# EAGLE library part NANOPI_NEO (library nanopi_neo)
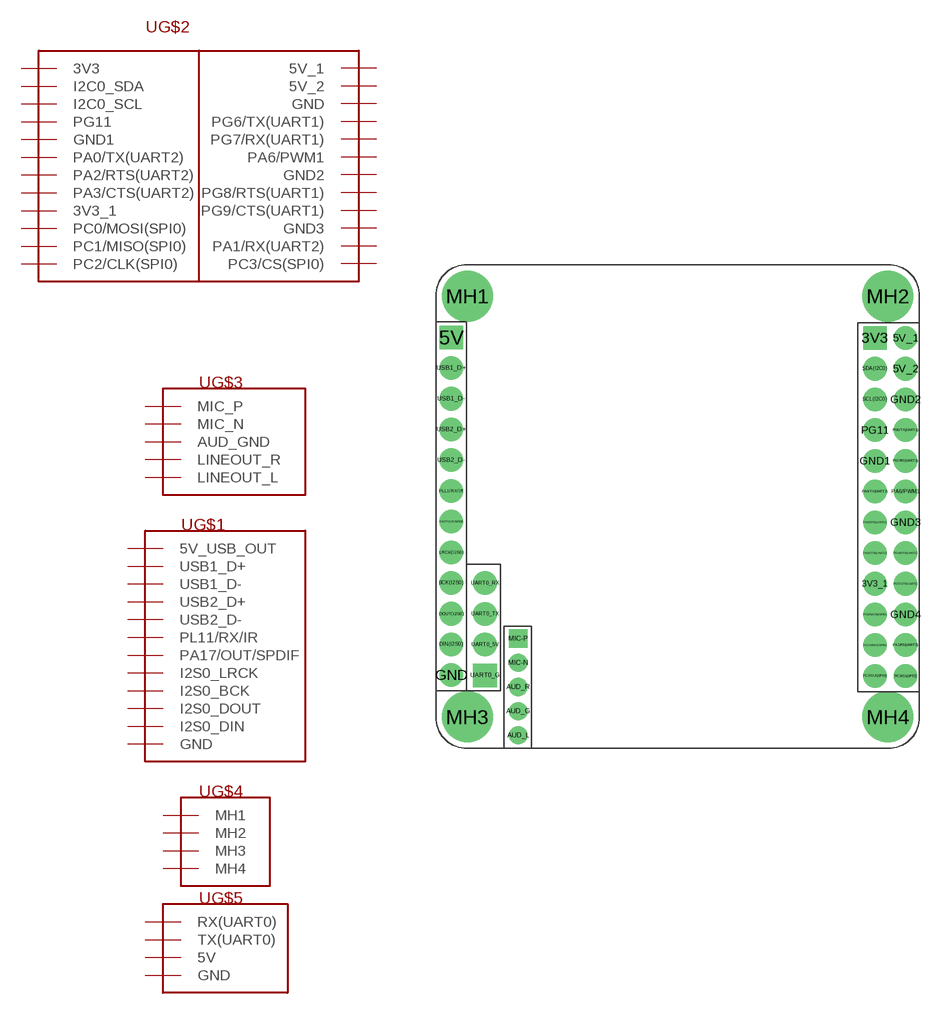
[diagram p0: symbol with the pads of NANO_PI_NEO_RPTR; footprint NANO_PI_NEO_RPTR]

Designator prefix U; gates G$1=CON_1X12 G$2=CON_2X12 G$3=NEO-HP-MIC G$4=MH G$5=CON_1X4

## NANOPI_NEOV1.3  [NANO_PI_NEO_RPTR]
3V3  G$2:3V3
3V3_1  G$2:3V3_1
5V  G$1:5V_USB_OUT
5V_1  G$2:5V_1
5V_2  G$2:5V_2
AUD_G  G$2:GND
AUD_L  G$3:LINEOUT_L
AUD_R  G$3:LINEOUT_R
BCK(I2S0)  G$1:I2S0_BCK
DIN(I2S0)  G$1:I2S0_DIN
DOUT(I2S0)  G$1:I2S0_DOUT
GND  G$1:GND
GND1  G$2:GND1
GND2  G$2:GND2
GND3  G$2:GND3
GND4  G$3:AUD_GND
LRCK(I2S0)  G$1:I2S0_LRCK
MH1  G$4:MH1
MH2  G$4:MH2
MH3  G$4:MH3
MH4  G$4:MH4
MIC-N  G$3:MIC_N
MIC-P  G$3:MIC_P
PA0/TX(UART2)  G$2:PA0/TX(UART2)
PA1/RX(UART2)  G$2:PA1/RX(UART2)
PA2/RTS(UART2)  G$2:PA2/RTS(UART2)
PA3/CTS(UART2)  G$2:PA3/CTS(UART2)
PA6/PWM1  G$2:PA6/PWM1
PA17/OUT/SPDIF  G$1:PA17/OUT/SPDIF
PC0/MOSI(SPI0)  G$2:PC0/MOSI(SPI0)
PC1/MISO(SPI0)  G$2:PC1/MISO(SPI0)
PC2/CLK(SPI0)  G$2:PC2/CLK(SPI0)
PC3/CS(SPI0)  G$2:PC3/CS(SPI0)
PG6/TX(UART1)  G$2:PG6/TX(UART1)
PG7/RX(UART1)  G$2:PG7/RX(UART1)
PG8/RTS(UART1)  G$2:PG8/RTS(UART1)
PG9/CTS(UART1)  G$2:PG9/CTS(UART1)
PG11  G$2:PG11
PLL1/RX/IR  G$1:PL11/RX/IR
SCL(I2C0)  G$2:I2C0_SCL
SDA(I2C0)  G$2:I2C0_SDA
UART0_5V  G$5:5V
UART0_G  G$5:GND
UART0_RX  G$5:RX(UART0)
UART0_TX  G$5:TX(UART0)
USB1_D+  G$1:USB1_D+
USB1_D-  G$1:USB1_D-
USB2_D+  G$1:USB2_D+
USB2_D-  G$1:USB2_D-

## Footprint NANO_PI_NEO_RPTR (pad centres in mm)
drill 1.3 square: 3V3 36.315,33.93; 5V 1.27,33.99; UART0_G 4.06,6.04
drill 1.3: 3V3_1 36.315,13.61; 5V_1 38.855,33.93; 5V_2 38.855,31.39; BCK(I2S0) 1.27,13.67; DIN(I2S0) 1.27,8.59; DOUT(I2S0) 1.27,11.13; GND 1.27,6.05; GND1 36.315,23.77; GND2 38.855,28.85; GND3 38.855,18.69; GND4 38.855,11.07; LRCK(I2S0) 1.27,16.21; PA0/TX(UART2) 36.315,21.23; PA1/RX(UART2) 38.855,8.53; PA2/RTS(UART2) 36.315,18.69; PA3/CTS(UART2) 36.315,16.15; PA6/PWM1 38.855,21.23; PA17/OUT/SPDIF 1.27,18.75; PC0/MOSI(SPI0) 36.315,11.07; PC1/MISO(SPI0) 36.315,8.53; PC2/CLK(SPI0) 36.315,5.99; PC3/CS(SPI0) 38.855,5.99; PG6/TX(UART1) 38.855,26.31; PG7/RX(UART1) 38.855,23.77; PG8/RTS(UART1) 38.855,16.15; PG9/CTS(UART1) 38.855,13.61; PG11 36.315,26.31; PLL1/RX/IR 1.27,21.29; SCL(I2C0) 36.315,28.85; SDA(I2C0) 36.315,31.39; UART0_5V 4.06,8.58; UART0_RX 4.06,13.66; UART0_TX 4.06,11.12; USB1_D+ 1.27,31.45; USB1_D- 1.27,28.91; USB2_D+ 1.27,26.37; USB2_D- 1.27,23.83
drill 1: AUD_G 6.81,3.075; AUD_L 6.81,1.075; AUD_R 6.81,5.075; MIC-N 6.81,7.075
drill 3.2: MH1 2.6,37.4; MH2 37.4,37.4; MH3 2.6,2.6; MH4 37.4,2.6
drill 1 square: MIC-P 6.81,9.075